# EAGLE library part GY521 (library gy521)
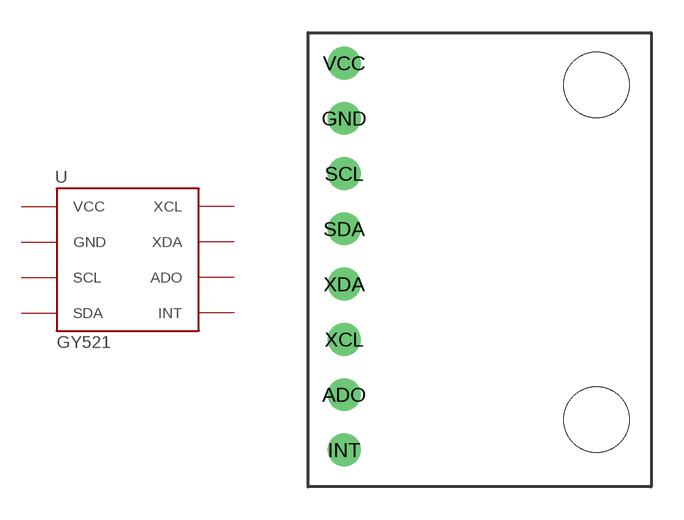
[diagram p0: symbol with the pads of GY521; footprint GY521]

Designator prefix -

## GY521  [GY521]
ADO  ADO  in
GND  GND  pwr
INT  INT  out
SCL  SCL  in
SDA  SDA
VCC  VCC  pwr
XCL  XCL  out
XDA  XDA

## Footprint GY521 (pad centres in mm)
drill 1: ADO -6.35,-6.35; GND -6.35,6.35; INT -6.35,-8.89; SCL -6.35,3.81; SDA -6.35,1.27; VCC -6.35,8.89; XCL -6.35,-3.81; XDA -6.35,-1.27
hole 3 at 5.25,7.89
hole 3 at 5.25,-7.49